# EAGLE library part LT1014 (library Eagle3D-IC_OpAmp)
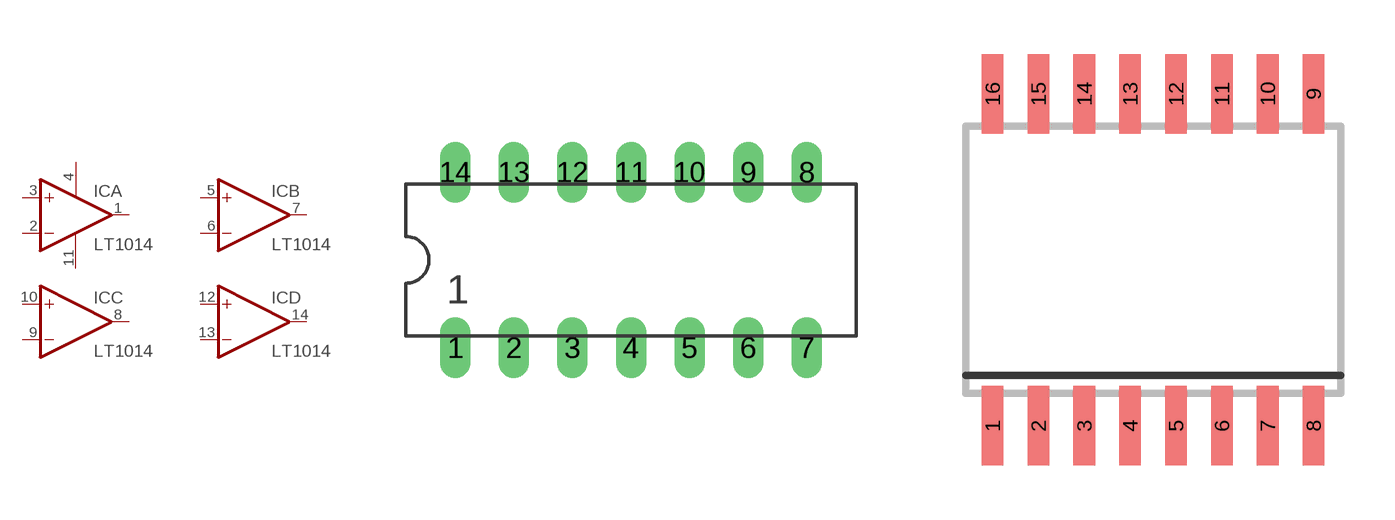
[diagram p1: symbol with the pads of DIL14; footprints DIL14, SO-16DW]

Designator prefix IC; gates A=OP-AMP B=OP-AMP C=OP-AMP D=OP-AMP P=IC_POWER_PINS

## LT1014N  [DIL14]
1  A:OUT  out
2  A:-IN  in
3  A:+IN  in
4  P:V+  pwr
5  B:+IN  in
6  B:-IN  in
7  B:OUT  out
8  C:OUT  out
9  C:-IN  in
10  C:+IN  in
11  P:V-  pwr
12  D:+IN  in
13  D:-IN  in
14  D:OUT  out

## LT1014CN  [DIL14]
Pads as for DIL14

## LT1014DN  [DIL14]
Pads as for DIL14

## LT1014IN  [DIL14]
Pads as for DIL14

## LT1014DSW  [SO-16DW]
1  A:OUT  out
2  A:-IN  in
3  A:+IN  in
4  P:V+  pwr
5  B:+IN  in
6  B:-IN  in
7  B:OUT  out
10  C:OUT  out
11  C:-IN  in
12  C:+IN  in
13  P:V-  pwr
14  D:+IN  in
15  D:-IN  in
16  D:OUT  out

## LT1014ISW  [SO-16DW]
Pads as for SO-16DW

## Footprint DIL14 (pad centres in mm)
14 Pin - Dual Inline Package
drill 0.813 long: 1 -7.62,-3.81; 2 -5.08,-3.81; 3 -2.54,-3.81; 4 0,-3.81; 5 2.54,-3.81; 6 5.08,-3.81; 7 7.62,-3.81; 8 7.62,3.81; 9 5.08,3.81; 10 2.54,3.81; 11 0,3.81; 12 -2.54,3.81; 13 -5.08,3.81; 14 -7.62,3.81

## Footprint SO-16DW (pad centres in mm)
smd 0.6 x 2.2: 1 -4.445,-4.6; 2 -3.175,-4.6; 3 -1.905,-4.6; 4 -0.635,-4.6; 5 0.635,-4.6; 6 1.905,-4.6; 7 3.175,-4.6; 8 4.445,-4.6; 9 4.445,4.6; 10 3.175,4.6; 11 1.905,4.6; 12 0.635,4.6; 13 -0.635,4.6; 14 -1.905,4.6; 15 -3.175,4.6; 16 -4.445,4.6